# EAGLE library part FH11 (library con-vg)
Fem. Connector H11 Solder http://www.erni.com/DB/PDF-Drawing/DIN/424654.pdf
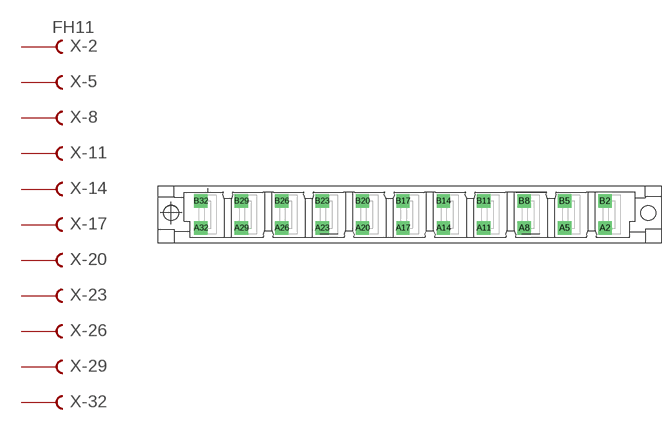
[diagram p121: symbol with the pads of FH11; footprint FH11]

Designator prefix X; gates -2=FVAL2 -5=FEM2 -8=FEM2 -11=FEM2 -14=FEM2 -17=FEM2 -20=FEM2 -23=FEM2 -26=FEM2 -29=FEM2 -32=FEM2

## FH11  [FH11]
A2  -2:A  pas
A5  -5:A  pas
A8  -8:A  pas
A11  -11:A  pas
A14  -14:A  pas
A17  -17:A  pas
A20  -20:A  pas
A23  -23:A  pas
A26  -26:A  pas
A29  -29:A  pas
A32  -32:A  pas
B2  -2:B  pas
B5  -5:B  pas
B8  -8:B  pas
B11  -11:B  pas
B14  -14:B  pas
B17  -17:B  pas
B20  -20:B  pas
B23  -23:B  pas
B26  -26:B  pas
B29  -29:B  pas
B32  -32:B  pas

## Footprint FH11 (pad centres in mm)
Fem. Connector H 11 Solder STVH11, 424654 Source: http://www.erni.com/DB/PDF-Drawing/DIN/424654.pdf
drill 1 pad 2.5 square: A2 38.1,-2.54; A5 30.48,-2.54; A8 22.86,-2.54; A11 15.24,-2.54; A14 7.62,-2.54; A17 0,-2.54; A20 -7.62,-2.54; A23 -15.24,-2.54; A26 -22.86,-2.54; A29 -30.48,-2.54; A32 -38.1,-2.54; B2 38.1,2.54; B5 30.48,2.54; B8 22.86,2.54; B11 15.24,2.54; B14 7.62,2.54; B17 0,2.54; B20 -7.62,2.54; B23 -15.24,2.54; B26 -22.86,2.54; B29 -30.48,2.54; B32 -38.1,2.54
hole 2.8 at -43.73,0.3
hole 2.8 at 46.27,0.3